# EAGLE library part MOMO-EDGE-6M (library components)
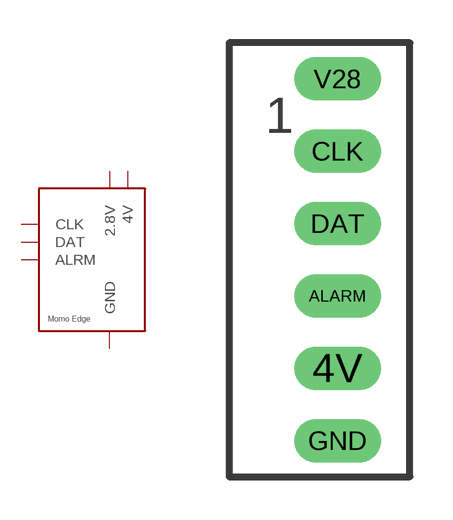
[diagram p21: symbol with the pads of MOMO-EDGE-6M; footprint MOMO-EDGE-6M]

Designator prefix JP

## MOMO-EDGE-6M (DESCRIPTION: 6 pin r/a male header; DIGIKEY-PN: 609-3327-ND; FOOTPRINT: Through Hole)  [MOMO-EDGE-6M]
4V  4V  pwr
ALARM  ALRM
CLK  CLK
DAT  DAT
GND  GND  pwr
V28  2.8V  pwr

## Footprint MOMO-EDGE-6M (pad centres in mm)
drill 1.016 long: 4V 0,0; ALARM 0,2.54; CLK 0,7.62; DAT 0,5.08; GND 0,-2.54; V28 0,10.16